# EAGLE library part HM91M2 (library micro-harris)
MICROCONTROLLER/MEMORY DEVICE
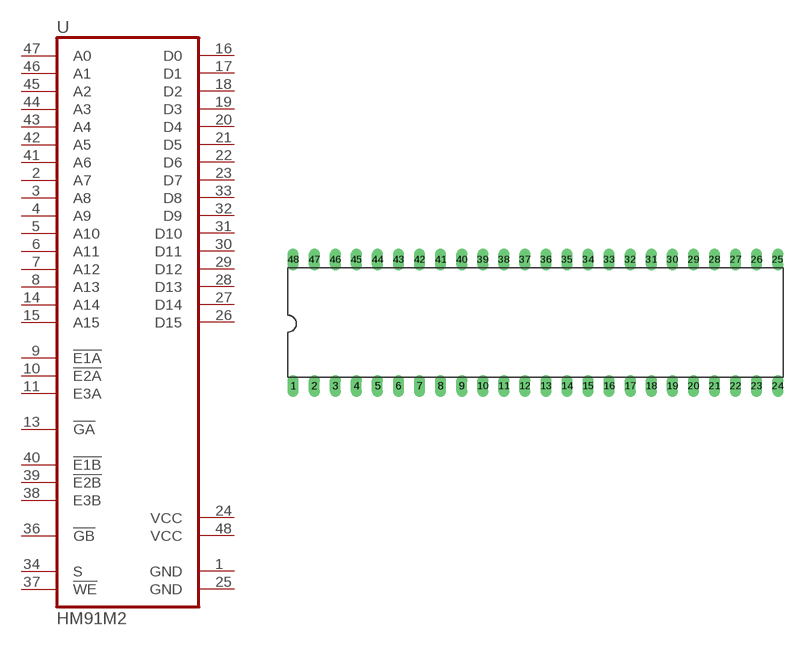
[diagram p0: symbol with the pads of DIL48; footprint DIL48]

Designator prefix U

## HM91M2 (OC_FARNELL: unknown; OC_NEWARK: unknown)  [DIL48]
1  GND  pwr
2  A7  in
3  A8  in
4  A9  in
5  A10  in
6  A11  in
7  A12  in
8  A13  in
9  !E1A  in
10  !E2A  in
11  E3A  in
13  !GA  in
14  A14  in
15  A15  in
16  D0
17  D1
18  D2
19  D3
20  D4
21  D5
22  D6
23  D7
24  VCC  pwr
25  GND  pwr
26  D15
27  D14
28  D13
29  D12
30  D11
31  D10
32  D9
33  D8
34  S  in
36  !GB  in
37  !WE  in
38  E3B  in
39  !E2B  in
40  !E1B  in
41  A6  in
42  A5  in
43  A4  in
44  A3  in
45  A2  in
46  A1  in
47  A0  in
48  VCC  pwr

## Footprint DIL48 (pad centres in mm)
Dual In Line Package
drill 0.813 long: 1 -29.21,-7.62; 2 -26.67,-7.62; 3 -24.13,-7.62; 4 -21.59,-7.62; 5 -19.05,-7.62; 6 -16.51,-7.62; 7 -13.97,-7.62; 8 -11.43,-7.62; 9 -8.89,-7.62; 10 -6.35,-7.62; 11 -3.81,-7.62; 12 -1.27,-7.62; 13 1.27,-7.62; 14 3.81,-7.62; 15 6.35,-7.62; 16 8.89,-7.62; 17 11.43,-7.62; 18 13.97,-7.62; 19 16.51,-7.62; 20 19.05,-7.62; 21 21.59,-7.62; 22 24.13,-7.62; 23 26.67,-7.62; 24 29.21,-7.62; 25 29.21,7.62; 26 26.67,7.62; 27 24.13,7.62; 28 21.59,7.62; 29 19.05,7.62; 30 16.51,7.62; 31 13.97,7.62; 32 11.43,7.62; 33 8.89,7.62; 34 6.35,7.62; 35 3.81,7.62; 36 1.27,7.62; 37 -1.27,7.62; 38 -3.81,7.62; 39 -6.35,7.62; 40 -8.89,7.62; 41 -11.43,7.62; 42 -13.97,7.62; 43 -16.51,7.62; 44 -19.05,7.62; 45 -21.59,7.62; 46 -24.13,7.62; 47 -26.67,7.62; 48 -29.21,7.62